# Altium schematic symbol library OSC-4.SchLib: 1 symbol
Pins are listed as number, name and electrical type; pins without a type are passive.

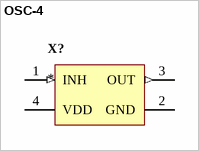
[diagram p0: symbol OSC-4]

## OSC-4
designator X?
pins: 1 INH (in), 2 GND (power), 3 OUT (out), 4 VDD (power)